# EAGLE library part DS3231SN (library proj_biblioteka)
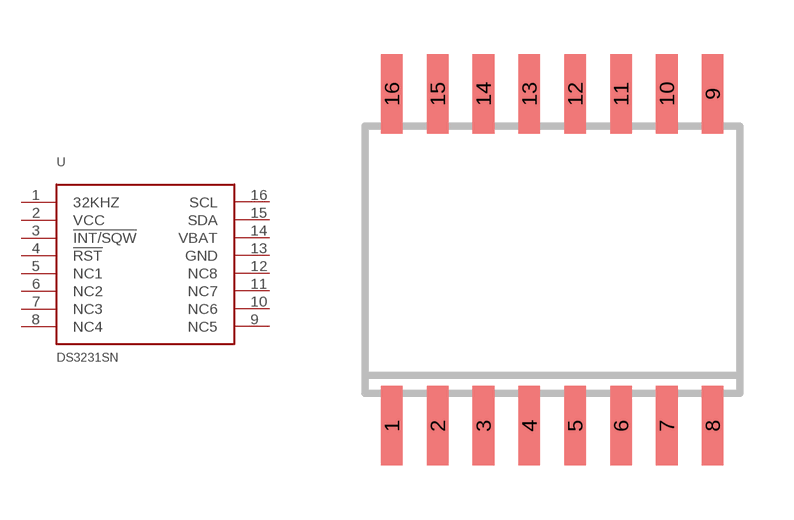
[diagram p6: symbol with the pads of SO16W; footprint SO16W]

Designator prefix -

## DS3231SN  [SO16W]
1  32KHZ
2  VCC
3  !INT/SQW
4  !RST
5  NC1
6  NC2
7  NC3
8  NC4
9  NC5
10  NC6
11  NC7
12  NC8
13  GND
14  VBAT
15  SDA
16  SCL

## Footprint SO16W (pad centres in mm)
smd 0.6 x 2.2: 1 -4.445,-4.6; 2 -3.175,-4.6; 3 -1.905,-4.6; 4 -0.635,-4.6; 5 0.635,-4.6; 6 1.905,-4.6; 7 3.175,-4.6; 8 4.445,-4.6; 9 4.445,4.6; 10 3.175,4.6; 11 1.905,4.6; 12 0.635,4.6; 13 -0.635,4.6; 14 -1.905,4.6; 15 -3.175,4.6; 16 -4.445,4.6